# Altium footprint library connectors.PcbLib: 16 footprints
Each footprint in its own frame and in the unit in brackets; x right, y up, seen from the top. Pads: shape width x height; smd on the part's side, far side on the other; paste and mask are expansions set on the pad; w line width, h text height; cw(c..) or ccw(c..) is an arc to the next point about the centre after c.
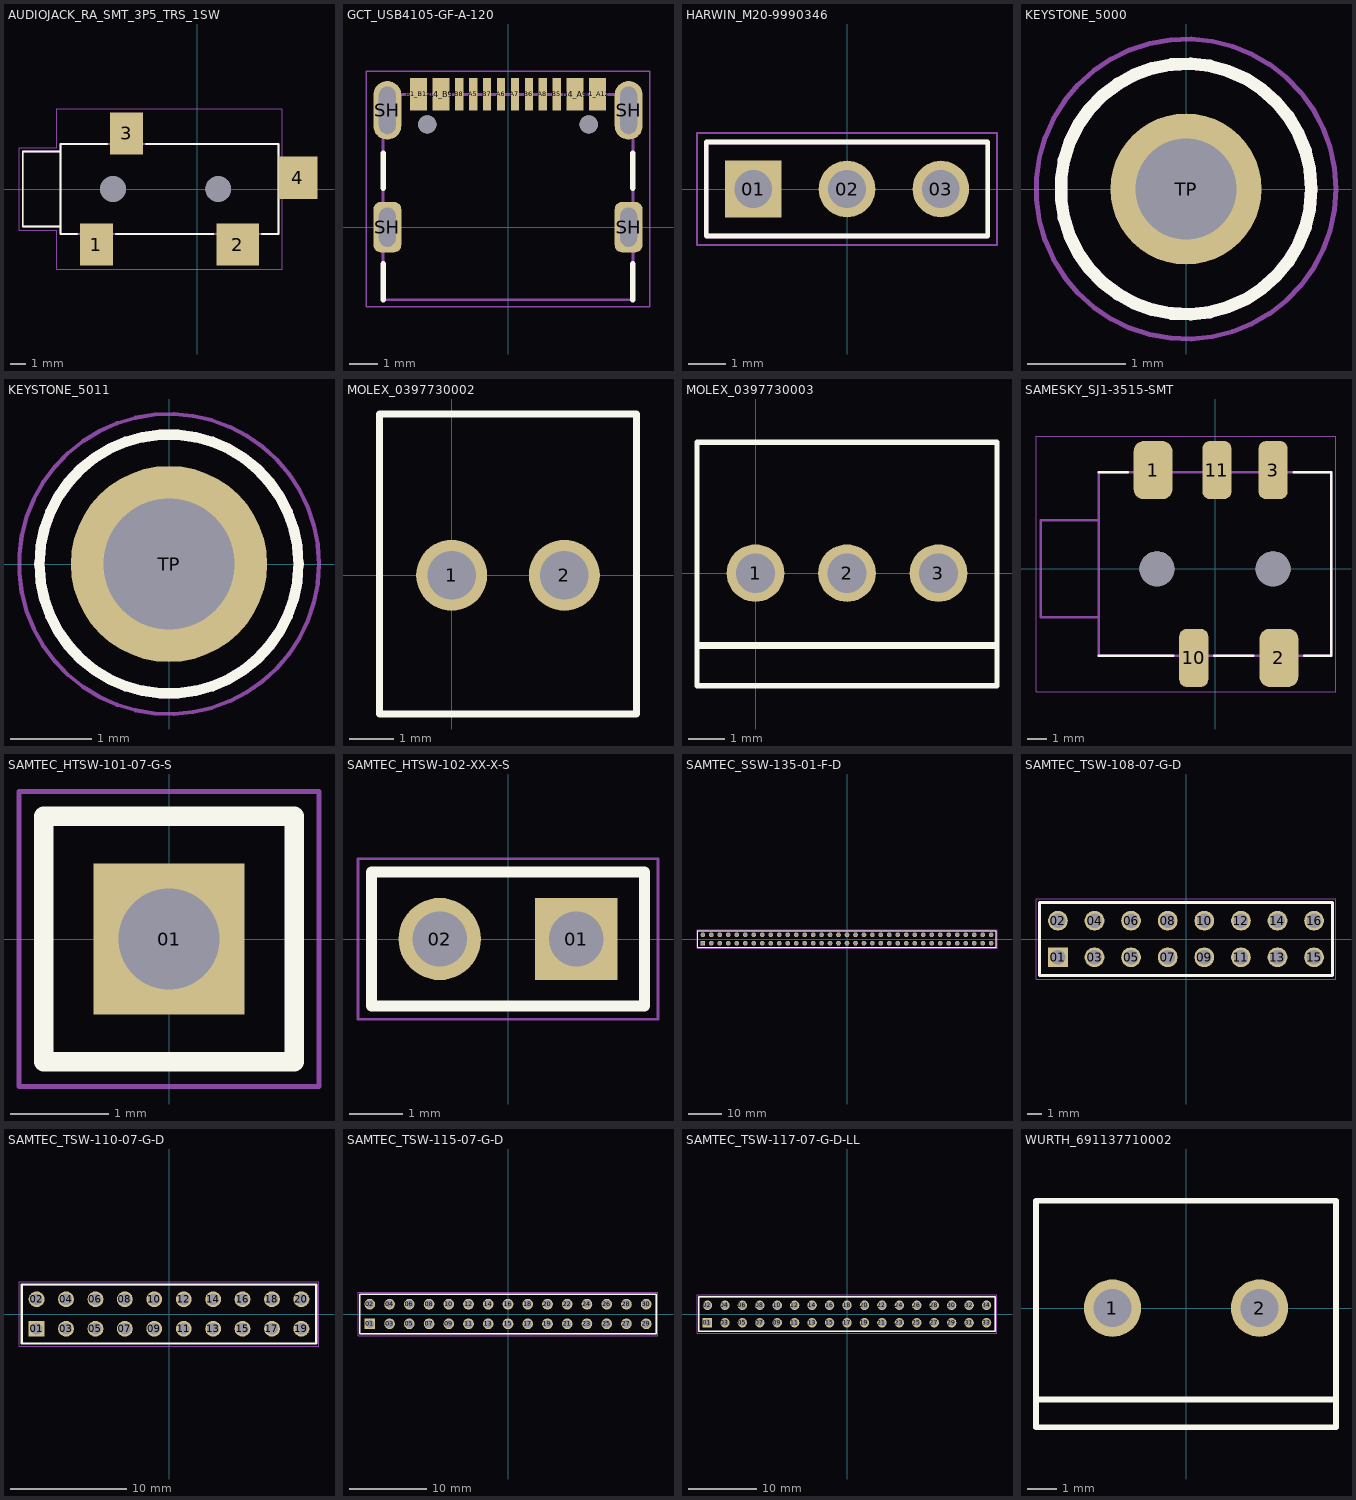
[diagram p0: the footprints below, top view; thin cyan lines are the x and y axes]

## AUDIOJACK_RA_SMT_3P5_TRS_1SW [mm]
pads (6):
  rect 2.2x2.8 smd: 1(-6.7,-3.7) 3(-4.7,3.7)
  rect 2.8x2.8 smd: 2(2.7,-3.7)
  rect 2.6x2.8 smd: 4(6.7,0.75)
  round 1.7 hole 1.7 unplated: ""(-5.6,0) ""(1.4,0)
Top Overlay:
  lines w0.127: -8,-3 -9.1,-3 -9.1,-2.5 ; -6,3 -9.1,3 -9.1,2.5 ; -5.4,-3 1.1,-3 ; -3.4,3 5.4,3 5.4,-3 4.3,-3 ; -9.1,-2.5 -9.1,2.5 ; -9.1,-2.5 -11.6,-2.5 -11.6,2.5 -9.1,2.5
Mechanical 13:
  lines w0.127: -9.1,-2.5 -11.6,-2.5 -11.6,2.5 -9.1,2.5 ; -9.1,-3 -9.1,3 5.4,3 5.4,-3 -9.1,-3
Mechanical 15:
  lines w0.05: -11.85,-2.75 -11.85,2.75 -9.35,2.75 -9.35,5.35 5.65,5.35 5.65,-5.35 -9.35,-5.35 -9.35,-2.75 -11.85,-2.75
3D body "step_temp.STEP": height 5, standoff -0.8, extent -11.601,-4.479 7.399,4.521

## GCT_USB4105-GF-A-120 [mm]
pads (18):
  rect 0.6x1.15 smd: A1_B12(-3.2,4.755) A4_B9(-2.4,4.755) B1_A12(3.2,4.755) B4_A9(2.4,4.755)
  rect 0.3x1.15 smd: A5(-1.25,4.755) A6(-0.25,4.755) A7(0.25,4.755) A8(1.25,4.755) B5(1.75,4.755) B6(0.75,4.755) B7(-0.75,4.755) B8(-1.75,4.755)
  rrect50% 1x1.8 hole 0.6 slot 1.4 at 90 deg: SH(-4.32,0) SH(4.32,0)
  oval 1x2.1 hole 0.6 slot 1.7 at 90 deg: SH(-4.32,4.18) SH(4.32,4.18)
  round 0.65 hole 0.65 unplated: ""(-2.89,3.68) ""(2.89,3.68)
Top Overlay:
  lines w0.2: -4.47,-2.6 -4.47,-1.32 ; -4.47,1.4 -4.47,2.65 ; 4.47,-2.6 4.47,-1.32 ; 4.47,1.4 4.47,2.65
Mechanical 13:
  lines w0.1: -4.47,-2.6 -4.47,4.75 4.47,4.75 4.47,-2.6 -4.47,-2.6
Mechanical 15:
  lines w0.05: -5.07,-2.85 5.07,-2.85 5.07,5.58 -5.07,5.58 -5.07,-2.85
3D body "step_temp.STEP": height 3.31, standoff -1.2, extent -4.47,-2.6 4.47,5.11

## HARWIN_M20-9990346 [mm]
pads (3):
  rect 1.53x1.53 hole 1.02: 01(-2.54,0)
  round 1.53 hole 1.02: 02(0,0) 03(2.54,0)
Top Overlay:
  lines w0.127: -3.81,-1.27 -3.81,1.27 3.81,1.27 3.81,-1.27 -3.81,-1.27
Mechanical 13:
  lines w0.127: -3.81,-1.27 -3.81,1.27 3.81,1.27 3.81,-1.27 -3.81,-1.27
Mechanical 15:
  lines w0.05: -4.06,-1.52 -4.06,1.52 4.06,1.52 4.06,-1.52 -4.06,-1.52
3D body "step_temp.STEP": height 8.74, standoff -3, extent -3.81,-1.27 3.81,1.27

## KEYSTONE_5000 [mm]
pads (1):
  round 1.53 hole 1.02: TP(0,0)
Top Overlay:
  circle w0.127: c0,0 r1.27
Mechanical 13:
  circle w0.127: c0,0 r1.27
Mechanical 15:
  circle w0.05: c0,0 r1.52
3D body "step_temp.STEP": height 4.57, standoff -3.05, extent -1.27,-1.27 1.27,1.27

## KEYSTONE_5011 [mm]
pads (1):
  round 2.4 hole 1.6: TP(0,0)
Top Overlay:
  circle w0.127: c0,0 r1.585
Mechanical 13:
  circle w0.127: c0,0 r1.585
Mechanical 15:
  circle w0.05: c0,0 r1.835
3D body "step_temp.STEP": height 8.13, standoff -3.17, extent -1.587,-1.587 1.587,1.587

## MOLEX_0397730002 [mil]
pads (2):
  round 63 hole 43: 1(0,0) 2(100,0)
Top Overlay:
  lines w6: -64,-123 -64,143 164,143 164,-123 -64,-123
3D body "397730002.stp": height 394, standoff -134, extent -59,-118 159,138

## MOLEX_0397730003 [mil]
pads (3):
  round 63 hole 43: 1(0,0) 2(100,0) 3(200,0)
Top Overlay:
  lines w6: -64,-123 264,-123 264,143 -64,143 -64,-123
  lines w7.87: -61.85,-79.13 262.91,-79.13
3D body "397730003.stp": height 394, standoff -134, extent -59,-118 259,138

## SAMESKY_SJ1-3515-SMT [mm]
pads (7):
  rrect50% 2x3 smd: 1(-3.2,5.1) 2(3.3,-4.6)
  rrect50% 1.5x3 smd: 3(3,5.1) 10(-1.1,-4.6) 11(0.1,5.1)
  round 1.8 hole 1.8 unplated: ""(-3,0) ""(3,0)
Top Overlay:
  lines w0.127: -6,-4.5 -2.17,-4.5 ; -6,5 -4.52,5 ; -0.03,-4.5 1.98,-4.5 ; 4.07,5 6,5 6,-4.5 4.62,-4.5
Mechanical 13:
  lines w0.127: -6,-2.5 -6,2.5 ; -6,-2.5 -6,-4.5 6,-4.5 6,5 -6,5 -6,2.5 ; -6,-2.5 -9,-2.5 -9,2.5 -6,2.5
Mechanical 15:
  lines w0.05: -9.25,-6.35 6.25,-6.35 6.25,6.85 -9.25,6.85 -9.25,-6.35
3D body "step_temp.STEP": height 5.04, standoff -0.56, extent -9,-6 6,6

## SAMTEC_HTSW-101-07-G-S [mm]
pads (1):
  rect 1.53x1.53 hole 1.02: 01(0,0)
Top Overlay:
  lines w0.2: -1.27,-1.245 1.27,-1.245 1.27,1.245 -1.27,1.245 -1.27,-1.245
Mechanical 13:
  lines w0.1: -1.27,-1.245 1.27,-1.245 1.27,1.245 -1.27,1.245 -1.27,-1.245
Mechanical 15:
  lines w0.05: -1.52,-1.495 1.52,-1.495 1.52,1.495 -1.52,1.495 -1.52,-1.495
3D body "HTSW-101-07-G-S.stp": height 8.38, standoff -2.54, extent -1.27,-1.245 1.27,1.245

## SAMTEC_HTSW-102-XX-X-S [mm]
pads (2):
  rect 1.53x1.53 hole 1.02: 01(1.27,0)
  round 1.53 hole 1.02: 02(-1.27,0)
Top Overlay:
  lines w0.2: -2.54,-1.245 2.54,-1.245 2.54,1.245 -2.54,1.245 -2.54,-1.245
Mechanical 13:
  lines w0.1: -2.54,-1.245 2.54,-1.245 2.54,1.245 -2.54,1.245 -2.54,-1.245
Mechanical 15:
  lines w0.05: -2.79,-1.495 2.79,-1.495 2.79,1.495 -2.79,1.495 -2.79,-1.495
3D body "HTSW-102-07-G-S.stp": height 8.38, standoff -2.54, extent -2.54,-1.245 2.54,1.245

## SAMTEC_SSW-135-01-F-D [mm]
pads (70):
  rect 1.37x1.37 hole 1.02: 01(-43.18,-1.163)
  round 1.39 hole 1.04: 02(-43.18,1.377) 03(-40.64,-1.163) 04(-40.64,1.377) 05(-38.1,-1.163) 06(-38.1,1.377) 07(-35.56,-1.163) 08(-35.56,1.377) 09(-33.02,-1.163) 10(-33.02,1.377) 11(-30.48,-1.163) 12(-30.48,1.377) 13(-27.94,-1.163) 14(-27.94,1.377) 15(-25.4,-1.163) 16(-25.4,1.377) 17(-22.86,-1.163) 18(-22.86,1.377) 19(-20.32,-1.163) 20(-20.32,1.377) 21(-17.78,-1.163) 22(-17.78,1.377) 23(-15.24,-1.163) 24(-15.24,1.377) 25(-12.7,-1.163) 26(-12.7,1.377) 27(-10.16,-1.163) 28(-10.16,1.377) 29(-7.62,-1.163) 30(-7.62,1.377) 31(-5.08,-1.163) 32(-5.08,1.377) 33(-2.54,-1.163) 34(-2.54,1.377) 35(0,-1.163) 36(0,1.377) 37(2.54,-1.163) 38(2.54,1.377) 39(5.08,-1.163) 40(5.08,1.377) 41(7.62,-1.163) 42(7.62,1.377) 43(10.16,-1.163) 44(10.16,1.377) 45(12.7,-1.163) 46(12.7,1.377) 47(15.24,-1.163) 48(15.24,1.377) 49(17.78,-1.163) 50(17.78,1.377) 51(20.32,-1.163) 52(20.32,1.377) 53(22.86,-1.163) 54(22.86,1.377) 55(25.4,-1.163) 56(25.4,1.377) 57(27.94,-1.163) 58(27.94,1.377) 59(30.48,-1.163) 60(30.48,1.377) 61(33.02,-1.163) 62(33.02,1.377) 63(35.56,-1.163) 64(35.56,1.377) 65(38.1,-1.163) 66(38.1,1.377) 67(40.64,-1.163) 68(40.64,1.377) 69(43.18,-1.163) 70(43.18,1.377)
Top Overlay:
  lines w0.2: -44.705,-2.369 44.705,-2.369 44.705,2.584 -44.705,2.584 -44.705,-2.369
Mechanical 13:
  lines w0.1: -44.705,-2.369 -44.705,2.584 ; -44.705,-2.369 44.705,-2.369 ; -44.705,-2.369 -44.705,2.584 ; -44.705,2.584 44.705,2.584 ; -44.705,2.584 44.705,2.584 ; 44.705,-2.369 44.705,2.584 ; 44.705,-2.369 44.705,2.584
Mechanical 15:
  lines w0.05: -44.955,-2.619 44.955,-2.619 44.955,2.834 -44.955,2.834 -44.955,-2.619
3D body "SSW-135-01-F-D.stp": height 8.51, standoff -2.64, extent -44.704,-2.476 44.704,2.476

## SAMTEC_TSW-108-07-G-D [mm]
pads (16):
  rect 1.37x1.37 hole 1.02: 01(-8.89,-1.27)
  round 1.37 hole 1.02: 02(-8.89,1.27) 03(-6.35,-1.27) 04(-6.35,1.27) 05(-3.81,-1.27) 06(-3.81,1.27) 07(-1.27,-1.27) 08(-1.27,1.27) 09(1.27,-1.27) 10(1.27,1.27) 11(3.81,-1.27) 12(3.81,1.27) 13(6.35,-1.27) 14(6.35,1.27) 15(8.89,-1.27) 16(8.89,1.27)
Top Overlay:
  lines w0.2: -10.16,-2.54 -10.16,2.54 10.16,2.54 10.16,-2.54 -10.16,-2.54
Mechanical 13:
  lines w0.1: -10.16,-2.54 -10.16,2.54 ; -10.16,-2.54 10.16,-2.54 ; -10.16,-2.54 -10.16,2.54 ; -10.16,2.54 10.16,2.54 ; -10.16,2.54 10.16,2.54 ; 10.16,-2.54 10.16,2.54 ; 10.16,-2.54 10.16,2.54
Mechanical 15:
  lines w0.05: -10.41,-2.79 -10.41,2.79 10.41,2.79 10.41,-2.79 -10.41,-2.79
3D body "TSW-108-07-G-D.stp": height 8.38, standoff -2.54, extent -10.16,-2.54 10.16,2.54

## SAMTEC_TSW-110-07-G-D [mm]
pads (20):
  rect 1.37x1.37 hole 1.02: 01(-11.43,-1.27)
  round 1.37 hole 1.02: 02(-11.43,1.27) 03(-8.89,-1.27) 04(-8.89,1.27) 05(-6.35,-1.27) 06(-6.35,1.27) 07(-3.81,-1.27) 08(-3.81,1.27) 09(-1.27,-1.27) 10(-1.27,1.27) 11(1.27,-1.27) 12(1.27,1.27) 13(3.81,-1.27) 14(3.81,1.27) 15(6.35,-1.27) 16(6.35,1.27) 17(8.89,-1.27) 18(8.89,1.27) 19(11.43,-1.27) 20(11.43,1.27)
Top Overlay:
  lines w0.2: -12.7,-2.54 -12.7,2.54 12.7,2.54 12.7,-2.54 -12.7,-2.54
Mechanical 13:
  lines w0.1: -12.7,-2.54 -12.7,2.54 ; -12.7,-2.54 12.7,-2.54 ; -12.7,-2.54 -12.7,2.54 ; -12.7,2.54 12.7,2.54 ; -12.7,2.54 12.7,2.54 ; 12.7,-2.54 12.7,2.54 ; 12.7,-2.54 12.7,2.54
Mechanical 15:
  lines w0.05: -12.95,-2.79 -12.95,2.79 12.95,2.79 12.95,-2.79 -12.95,-2.79
3D body "TSW-110-07-G-D.stp": height 8.38, standoff -2.54, extent -12.7,-2.54 12.7,2.54

## SAMTEC_TSW-115-07-G-D [mm]
pads (30):
  rect 1.37x1.37 hole 1.02: 01(-17.78,-1.27)
  round 1.37 hole 1.02: 02(-17.78,1.27) 03(-15.24,-1.27) 04(-15.24,1.27) 05(-12.7,-1.27) 06(-12.7,1.27) 07(-10.16,-1.27) 08(-10.16,1.27) 09(-7.62,-1.27) 10(-7.62,1.27) 11(-5.08,-1.27) 12(-5.08,1.27) 13(-2.54,-1.27) 14(-2.54,1.27) 15(0,-1.27) 16(0,1.27) 17(2.54,-1.27) 18(2.54,1.27) 19(5.08,-1.27) 20(5.08,1.27) 21(7.62,-1.27) 22(7.62,1.27) 23(10.16,-1.27) 24(10.16,1.27) 25(12.7,-1.27) 26(12.7,1.27) 27(15.24,-1.27) 28(15.24,1.27) 29(17.78,-1.27) 30(17.78,1.27)
Top Overlay:
  lines w0.2: -19.05,-2.54 19.05,-2.54 19.05,2.54 -19.05,2.54 -19.05,-2.54
Mechanical 13:
  lines w0.1: -19.05,-2.54 -19.05,2.54 ; -19.05,-2.54 19.05,-2.54 ; -19.05,-2.54 -19.05,2.54 ; -19.05,2.54 19.05,2.54 ; -19.05,2.54 19.05,2.54 ; 19.05,-2.54 19.05,2.54 ; 19.05,-2.54 19.05,2.54
Mechanical 15:
  lines w0.05: -19.3,-2.79 19.3,-2.79 19.3,2.79 -19.3,2.79 -19.3,-2.79
3D body "TSW-115-07-G-D.stp": height 8.38, standoff -2.54, extent -19.05,-2.54 19.05,2.54

## SAMTEC_TSW-117-07-G-D-LL [mm]
pads (34):
  rect 1.37x1.37 hole 1.02: 01(-20.32,-1.27)
  round 1.37 hole 1.02: 02(-20.32,1.27) 03(-17.78,-1.27) 04(-17.78,1.27) 05(-15.24,-1.27) 06(-15.24,1.27) 07(-12.7,-1.27) 08(-12.7,1.27) 09(-10.16,-1.27) 10(-10.16,1.27) 11(-7.62,-1.27) 12(-7.62,1.27) 13(-5.08,-1.27) 14(-5.08,1.27) 15(-2.54,-1.27) 16(-2.54,1.27) 17(0,-1.27) 18(0,1.27) 19(2.54,-1.27) 20(2.54,1.27) 21(5.08,-1.27) 22(5.08,1.27) 23(7.62,-1.27) 24(7.62,1.27) 25(10.16,-1.27) 26(10.16,1.27) 27(12.7,-1.27) 28(12.7,1.27) 29(15.24,-1.27) 30(15.24,1.27) 31(17.78,-1.27) 32(17.78,1.27) 33(20.32,-1.27) 34(20.32,1.27)
Top Overlay:
  lines w0.2: -21.59,-2.54 -21.59,2.54 21.59,2.54 21.59,-2.54 -21.59,-2.54
Mechanical 13:
  lines w0.1: -21.59,-2.54 -21.59,2.54 21.59,2.54 21.59,-2.54 -21.59,-2.54
Mechanical 15:
  lines w0.05: -21.84,-2.79 -21.84,2.79 21.84,2.79 21.84,-2.79 -21.84,-2.79
3D body "TSW-117-07-G-D-LL.stp": height 8.38, standoff -2.54, extent -21.58,-2.549 21.6,2.531

## WURTH_691137710002 [mm]
pads (2):
  round 1.95 hole 1.3: 1(-2.5,0) 2(2.5,0)
Top Overlay:
  lines w0.2: -5.1,-3.102 5.1,-3.102 ; -5.1,-4.05 -5.1,3.65 5.1,3.65 5.1,-4.05 -5.1,-4.05
3D body "step_temp.STEP": height 11.5, standoff -3.6, extent -5,-3.948 5,3.552